# Altium schematic symbol library MOSFET(N-CH, 20V, 2.6A, 57mOhm, SOT-23-3).SchLib: 1 symbol
Pins are listed as number, name and electrical type; pins without a type are passive.

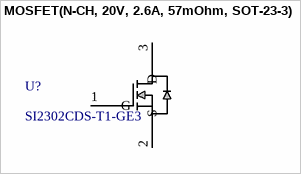
[diagram p0: symbol MOSFET(N-CH, 20V, 2.6A, 57mOhm, SOT-23-3)]

## MOSFET(N-CH, 20V, 2.6A, 57mOhm, SOT-23-3)
designator U?, comment SI2302CDS-T1-GE3
N-CHANNEL 20-V (D-S) MOSFET; Manufacturer_Name: Vishay; Manufacturer_Part_Number: SI2302CDS-T1-GE3; Package: SOT-23-3; Datasheet: https://www.vishay.com/docs/68645/si2302cds.pdf; Digikey_Link: https://www.digikey.it/en/products/detail/vishay-siliconix/SI2302CDS-T1-GE3/1978729
footprint TO-236_VIS
pins: 1 G, 2 S, 3 D